# Altium footprint library mamsense_button.PcbLib: 197 footprints (part 1 of 13)
Each footprint in its own frame and in the unit in brackets; x right, y up, seen from the top. Pads: shape width x height; smd on the part's side, far side on the other; paste and mask are expansions set on the pad; w line width, h text height; cw(c..) or ccw(c..) is an arc to the next point about the centre after c.
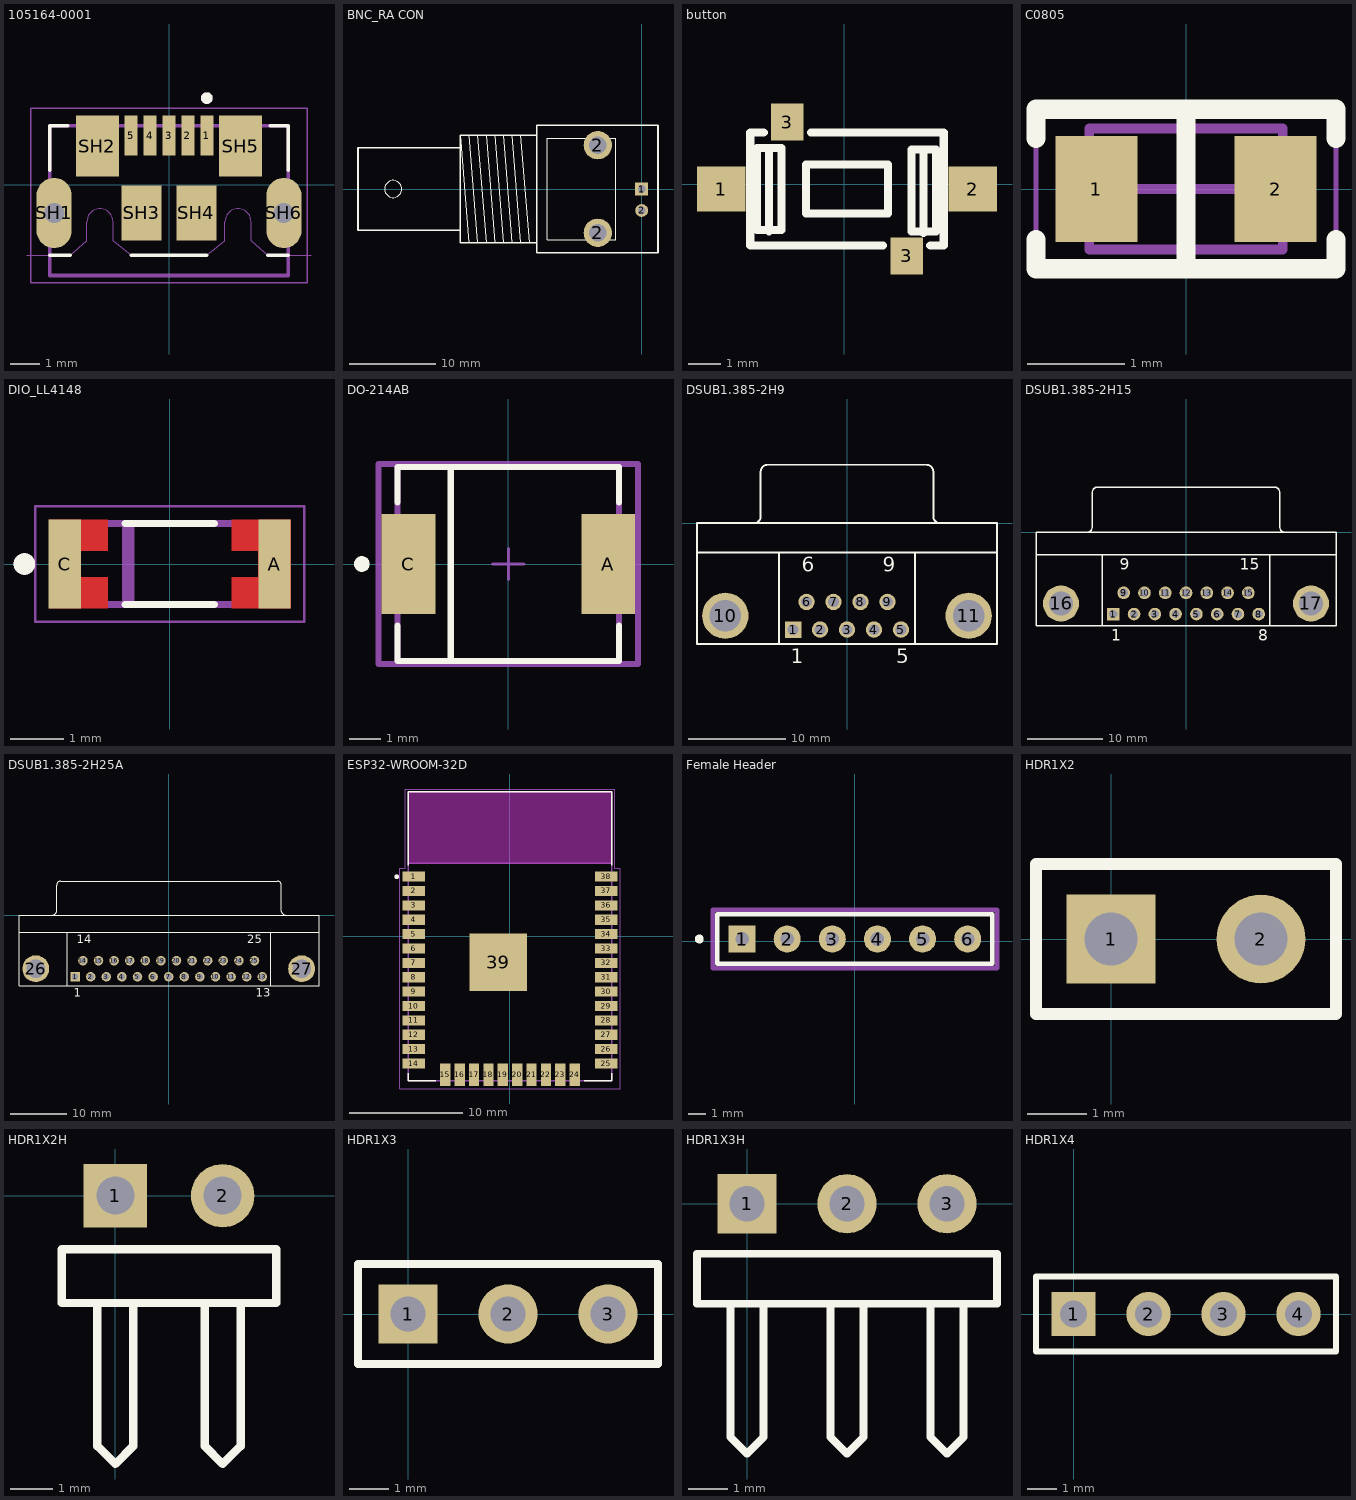
[diagram p0: the footprints below, top view; thin cyan lines are the x and y axes]

## 105164-0001 [mm] "Molex Micro B USB"
pads (11):
  rect 0.45x1.38 smd: 1(1.3,1.697) 2(0.65,1.697) 3(0,1.697) 4(-0.65,1.697) 5(-1.3,1.697)
  oval 1.208x2.416 hole 0.7 square: SH1(-3.95,-0.963) SH6(3.95,-0.963)
  rect 1.475x2.1 smd: SH2(-2.462,1.337) SH5(2.462,1.337)
  rect 1.375x1.9 smd: SH3(-0.937,-0.963) SH4(0.937,-0.963)
Top Overlay:
  circle w0.2: c1.3,2.987 r0.1
  lines w0.127: -4.1,-2.413 -3.4,-2.413 ; -4.1,0.507 -4.1,2.037 -3.48,2.037 ; -1.3,-2.413 1.3,-2.413 ; 3.4,-2.413 4.1,-2.413 ; 3.48,2.037 4.1,2.037 4.1,0.507
Mechanical 1:
  lines w0: -4.9,-2.413 -3.4,-2.413 -2.825,-1.913 -2.825,-1.263 cw(c-2.375,-1.263) -1.925,-1.263 -1.925,-1.913 -1.3,-2.413 0,-2.413 1.3,-2.413 1.925,-1.913 1.925,-1.263 cw(c2.375,-1.263) 2.825,-1.263 2.825,-1.913 3.4,-2.413 4.9,-2.413
Mechanical 13:
  circle w0.2: c1.3,2.987 r0.1
  lines w0.127: -4.1,-3.113 -4.1,2.037 4.1,2.037 4.1,-3.113 -4.1,-3.113
Mechanical 15:
  lines w0.05: -4.75,-3.363 -4.75,2.637 4.75,2.637 4.75,-3.363 -4.75,-3.363
3D body "105164-0001.stp": height 2.43, standoff -0.82, extent -4.1,-3.119 4.1,2.031

## BNC_RA CON [mm] "Connector; BNC Elbow"
pads (4):
  rect 1.5x1.5 hole 0.9: 1(0,0)
  round 3.3 hole 2: 2(-5.1,-5.1) 2(-5.1,5.1)
  round 1.5 hole 0.9: 2(0,-2.5)
Top Overlay:
  circle w0.025: c-28.9,0 r1
  lines w0.025: -20.1,-6.25 -21.1,6.25 ; -20.1,6.25 -19.1,-6.25 ; -19.1,6.25 -18.1,-6.25 ; -18.1,6.25 -17.1,-6.25 ; -17.1,6.25 -16.1,-6.25 ; -16.1,6.25 -15.1,-6.25 ; -15.1,6.25 -14.1,-6.25 ; -14.1,6.25 -13.1,-6.25 ; -21.1,-4.8 -33,-4.8 -33,4.8 -21.1,4.8 ; -21.1,-4.8 -21.1,4.8 ; -21.1,-4.8 -21.1,-6.25 -12.2,-6.25 ; -21.1,4.8 -21.1,6.25 ; -21.1,6.25 -12.2,6.25 ; -12.2,-6.25 -12.2,6.25 ; -12.2,-6.25 -12.2,-7.4 1.9,-7.4 1.9,7.4 -12.2,7.4 -12.2,6.25 ; -11,-5.9 -3,-5.9 -3,5.9 -11,5.9 -11,-5.9
  lines w0.2: -21.1,-4.8 -21.1,4.8 ; -21.1,-4.8 -33,-4.8 -33,4.8 -21.1,4.8 ; -21.1,-4.8 -21.1,-6.25 -12.2,-6.25 ; -21.1,4.8 -21.1,6.25 -12.2,6.25 ; -12.2,-6.25 -12.2,6.25 ; -12.2,-6.25 -12.2,-7.4 1.9,-7.4 1.9,7.4 -12.2,7.4 -12.2,6.25

## button [mm]
pads (4):
  rect 1.5x1.4 smd paste+0 mask+0.051: 1(-3.822,-0.144) 2(3.978,-0.144)
  rect 1x1.15 smd paste+0 mask+0.051: 3(-1.772,1.931) 3(1.928,-2.219)
Top Overlay:
  lines w0.254: -2.503,1.606 -2.922,1.606 -2.922,-1.894 1.197,-1.894 ; -2.343,-1.455 -2.343,1.085 ; -1.041,1.606 3.078,1.606 3.078,-1.894 2.659,-1.894 ; 2.45,-1.504 2.45,1.036 ; -2.716,-1.414 -2.716,1.126 -1.954,1.126 -1.954,-1.414 -2.716,-1.414 ; -1.192,-0.906 -1.192,0.618 1.348,0.618 1.348,-0.906 -1.192,-0.906 ; 2.077,-1.464 2.077,1.076 2.839,1.076 2.839,-1.464 2.077,-1.464

## C0805 [mm]
height 1
pads (2):
  rect 0.85x1.1 smd: 1(-0.925,0) 2(0.925,0)
Top Overlay:
  lines w0.2: -1.55,-0.525 -1.55,-0.825 1.55,-0.825 1.55,-0.525 ; -1.55,0.525 -1.55,0.825 1.55,0.825 1.55,0.525 ; 0,-0.825 0,0.8
Mechanical 13:
  lines w0.1: -1,-0.625 -1,0.625 1,0.625 1,-0.625 -1,-0.625
Mechanical 15:
  lines w0.05: -1.55,-0.825 1.55,-0.825 1.55,0.825 -1.55,0.825 -1.55,-0.825
  lines w0.1: -0.5,0 0.5,0 ; 0,-0.5 0,0.5
3D body "CAP FILM - 0805.step": height 1.2, standoff 0, extent -1,-0.616 1,0.616

## DIO_LL4148 [mm]
height 1.5
pads (2):
  rect 0.6x1.65 smd: A(1.95,0) C(-1.95,0)
Top Layer:
  region: 2.25,-0.825 1.15,-0.825 1.15,-0.25 1.65,-0.25 1.65,0.25 1.15,0.25 1.15,0.825 2.25,0.825
  region: -1.15,0.25 -1.65,0.25 -1.65,-0.25 -1.15,-0.25 -1.15,-0.825 -2.24,-0.825 -2.24,0.825 -1.15,0.825
Top Overlay:
  circle w0.2: c-2.7,0 r0.1
  lines w0.127: -0.83,-0.75 0.83,-0.75 ; -0.83,0.75 0.83,0.75
Top Paste:
  region: 1.65,0.25 1.15,0.25 1.15,0.825 1.65,0.825
  region: 1.65,0.25 1.15,0.25 1.15,0.825 1.65,0.825
  region: 1.65,-0.825 1.15,-0.825 1.15,-0.25 1.65,-0.25
  region: -1.15,-0.825 -1.65,-0.825 -1.65,-0.25 -1.15,-0.25
  region: -1.15,-0.825 -1.65,-0.825 -1.65,-0.25 -1.15,-0.25
  region: -1.15,0.25 -1.65,0.25 -1.65,0.825 -1.15,0.825
Top Solder:
  region: 1.55,0.15 1.05,0.15 1.05,0.925 1.55,0.925
  region: 1.55,-0.925 1.05,-0.925 1.05,-0.15 1.55,-0.15
  region: -1.05,-0.925 -1.55,-0.925 -1.55,-0.15 -1.05,-0.15
  region: -1.05,0.15 -1.55,0.15 -1.55,0.925 -1.05,0.925
Mechanical 13:
  circle w0.2: c-2.7,0 r0.1
  lines w0.127: -0.82,-0.75 -0.82,0.75 ; -0.72,-0.75 -0.72,0.75 ; -1.82,-0.75 1.82,-0.75 1.82,0.75 -1.82,0.75 -1.82,-0.75
Mechanical 15:
  lines w0.05: -2.5,-1.075 2.5,-1.075 2.5,1.075 -2.5,1.075 -2.5,-1.075
3D body "step_temp.STEP": height 1.5, standoff 0, extent -1.725,-0.75 1.725,0.75

## DO-214AB [mm]
pads (2):
  rect 1.72x3.2 smd paste+0 mask+0: A(3.205,0) C(-3.205,0)
Top Overlay:
  circle w0.25: c-4.7,0 r0.125
  lines w0.2: -3.555,-1.975 -3.555,-3.11 3.555,-3.11 3.555,-1.975 ; -3.555,1.975 -3.555,3.11 3.555,3.11 3.555,1.975 ; -1.85,-3 -1.85,3
Mechanical 5:
  lines w0.2: -4.165,-3.21 4.165,-3.21 4.165,3.21 -4.165,3.21 -4.165,-3.21
Mechanical 13:
  lines w0.2: -3.555,-3.11 3.555,-3.11 3.555,3.11 -3.555,3.11 -3.555,-3.11
Mechanical 15:
  lines w0.2: -4.165,-3.21 4.165,-3.21 4.165,3.21 -4.165,3.21 -4.165,-3.21
Mechanical 16:
  lines w0.1: -0.5,0 0.5,0 ; 0,-0.5 0,0.5
3D body "Diode_Vishay_SS34-E3-57T_eec.STEP": height 0.25, standoff 0, extent -4.165,-3.21 4.165,3.21

## DSUB1.385-2H9 [mm] "Connector; D Subminiature; 9 Position; Right Angle; Pitch 1.385 mm"
height 12.75
pads (11):
  rect 1.69x1.69 hole 1.09: 1(-5.54,-10.92)
  round 1.69 hole 1.09: 2(-2.77,-10.92) 3(0,-10.92) 4(2.77,-10.92) 5(5.54,-10.92) 6(-4.155,-8.08) 7(-1.385,-8.08) 8(1.385,-8.08) 9(4.155,-8.08)
  round 4.76 hole 3.26: 10(-12.495,-9.5) 11(12.495,-9.5)
Top Overlay:
  lines w0.2: -15.4,-3 15.4,-3 ; -9.56,0.005 ccw(c-9.56,0.7) -8.865,0.7 -8.865,5.3 ; -8.86,5.305 cw(c-8.165,5.305) -8.165,6 8.165,6 cw(c8.165,5.305) 8.86,5.305 ; -7,-12.4 -7,-3 ; 7,-12.4 7,-3 ; 8.865,5.3 8.865,0.7 ccw(c9.56,0.7) 9.56,0.005 ; -15.4,-12.4 -15.4,0 15.4,0 15.4,-12.4 -15.4,-12.4
  text "1" at -5.79,-14.375 h1.5
  text "5" at 5.04,-14.375 h1.5
  text "9" at 3.655,-4.975 h1.5
  text "6" at -4.655,-4.975 h1.5

## DSUB1.385-2H15 [mm] "Connector; D Subminiature; 15 Position; Right Angle; Pitch 1.385 mm"
height 12.75
pads (17):
  rect 1.69x1.69 hole 1.09: 1(-9.695,-10.92)
  round 1.69 hole 1.09: 2(-6.925,-10.92) 3(-4.155,-10.92) 4(-1.385,-10.92) 5(1.385,-10.92) 6(4.155,-10.92) 7(6.925,-10.92) 8(9.695,-10.92) 9(-8.31,-8.08) 10(-5.54,-8.08) 11(-2.77,-8.08) 12(0,-8.08) 13(2.77,-8.08) 14(5.54,-8.08) 15(8.31,-8.08)
  round 4.8 hole 3.18: 16(-16.66,-9.5) 17(16.66,-9.5)
Top Overlay:
  lines w0.2: -20,-3 20,-3 ; -13.195,0.005 ccw(c-13.195,0.7) -12.5,0.7 -12.5,5.3 ; -12.495,5.305 cw(c-11.8,5.305) -11.8,6 11.8,6 cw(c11.8,5.305) 12.495,5.305 ; -11.14,-12.5 -11.14,-3 ; 11.14,-12.5 11.14,-3 ; 12.5,5.3 12.5,0.7 ccw(c13.195,0.7) 13.195,0.005 ; -20,-12.5 -20,0 20,0 20,-12.5 -20,-12.5
  text "1" at -9.945,-14.475 h1.5
  text "8" at 9.652,-14.475 h1.5
  text "15" at 7.185,-4.975 h1.5
  text "9" at -8.81,-4.975 h1.5

## DSUB1.385-2H25A [mm] "Connector; D Subminiature; 25 Position; Right Angle; Pitch 1.385 mm"
height 12.93
pads (27):
  rect 1.69x1.69 hole 1.09: 1(-16.566,-10.92)
  round 1.69 hole 1.09: 2(-13.805,-10.92) 3(-11.044,-10.92) 4(-8.283,-10.92) 5(-5.522,-10.92) 6(-2.761,-10.92) 7(0,-10.92) 8(2.761,-10.92) 9(5.522,-10.92) 10(8.283,-10.92) 11(11.044,-10.92) 12(13.805,-10.92) 13(16.566,-10.92) 14(-15.185,-8.08) 15(-12.424,-8.08) 16(-9.663,-8.08) 17(-6.902,-8.08) 18(-4.141,-8.08) 19(-1.38,-8.08) 20(1.381,-8.08) 21(4.142,-8.08) 22(6.903,-8.08) 23(9.664,-8.08) 24(12.425,-8.08) 25(15.186,-8.08)
  round 4.76 hole 3.26: 26(-23.526,-9.5) 27(23.526,-9.5)
Top Overlay:
  lines w0.2: -26.496,-3 26.604,-3 ; -20.541,0.005 ccw(c-20.541,0.7) -19.846,0.7 -19.846,5.3 ; -19.841,5.305 cw(c-19.146,5.305) -19.146,6 19.254,6 cw(c19.254,5.305) 19.949,5.305 ; -17.946,-12.5 -17.946,-3 ; 18.054,-12.5 18.054,-3 ; 19.954,5.3 19.954,0.7 ccw(c20.649,0.7) 20.649,0.005 ; -26.496,-12.5 -26.496,0 26.604,0 26.604,-12.5 -26.496,-12.5
  text "25" at 13.936,-4.975 h1.5
  text "14" at -16.31,-4.975 h1.5
  text "13" at 15.441,-14.475 h1.5
  text "1" at -16.816,-14.475 h1.5

## ESP32-WROOM-32D [mm]
pads (39):
  rect 2x0.9 smd mask+0.102: 1(-8.5,5.26) 2(-8.5,3.99) 3(-8.5,2.72) 4(-8.5,1.45) 5(-8.5,0.18) 6(-8.5,-1.09) 7(-8.5,-2.36) 8(-8.5,-3.63) 9(-8.5,-4.9) 10(-8.5,-6.17) 11(-8.5,-7.44) 12(-8.5,-8.71) 13(-8.5,-9.98) 14(-8.5,-11.25) 25(8.5,-11.25) 26(8.5,-9.98) 27(8.5,-8.71) 28(8.5,-7.44) 29(8.5,-6.17) 30(8.5,-4.9) 31(8.5,-3.63) 32(8.5,-2.36) 33(8.5,-1.09) 34(8.5,0.18) 35(8.5,1.45) 36(8.5,2.72) 37(8.5,3.99) 38(8.5,5.26)
  rect 0.9x2 smd mask+0.102: 15(-5.715,-12.25) 16(-4.445,-12.25) 17(-3.175,-12.25) 18(-1.905,-12.25) 19(-0.635,-12.25) 20(0.635,-12.25) 21(1.905,-12.25) 22(3.175,-12.25) 23(4.445,-12.25) 24(5.715,-12.25)
  rect 5.08x5.08 smd mask+0.102: 39(-1.016,-2.286)
Top Overlay:
  circle w0.2: c-10,5.25 r0.1
  lines w0.127: -9,-12.1 -9,-12.75 -6.55,-12.75 ; -9,6.25 -9,12.75 9,12.75 9,6.25 ; 6.55,-12.75 9,-12.75 9,-12.1
Keep-Out Layer:
  region: 9,6.45 -9,6.45 -9,12.75 9,12.75
  region: 9,6.45 -9,6.45 -9,12.75 9,12.75
Mechanical 13:
  circle w0.2: c-10,5.25 r0.1
  lines w0.127: -9,6.45 9,6.45 ; -9,6.45 -9,12.75 9,12.75 9,6.45 ; -9,6.45 -9,-12.75 9,-12.75 9,6.45
  text "ANTENNA" at -6,9 h1.78
Mechanical 15:
  lines w0.05: -9.75,-13.5 -9.75,6 -9.25,6 -9.25,13 9.25,13 9.25,6 9.75,6 9.75,-13.5 -9.75,-13.5
3D body "ESP32-WROOM-32D--3DModel-STEP-56544.STEP": height 3.25, standoff 0, extent -9,-12.75 9,12.75

## Female Header [mil]
pads (6):
  rect 60x60 hole 30: 1(-250,5)
  round 60 hole 30: 2(-150,5) 3(-50,5) 4(50,5) 5(150,5) 6(250,5)
Top Overlay:
  circle w9.84: c-345,5 r4.92
  lines w10: -305,-50 -305,60 305,60 305,-50 -305,-50
Mechanical 15:
  lines w10: -315,-60 -315,70 315,70 315,-60 -315,-60
3D body "Female Pin Header 01x06 Pitch 2.54mm Height 8.5mm.stp": height 334.65, standoff -125.98, extent -300,-45 300,55

## HDR1X2 [mm] "Connector; Header; 2 Position"
pads (2):
  rect 1.5x1.5 hole 0.9: 1(0,0)
  round 1.5 hole 0.9: 2(2.54,0)
Top Overlay:
  lines w0.2: -1.27,-1.27 -1.27,1.27 3.81,1.27 3.81,-1.27 -1.27,-1.27

## HDR1X2H [mm] "Connector; Header; 2 Position; Right Angle"
pads (2):
  rect 1.5x1.5 hole 0.9: 1(0,0)
  round 1.5 hole 0.9: 2(2.54,0)
Top Overlay:
  lines w0.2: -0.423,-2.54 -0.423,-5.927 0,-6.35 0.423,-5.927 0.423,-2.54 ; 2.117,-2.54 2.117,-5.927 2.54,-6.35 2.963,-5.927 2.963,-2.54 ; -1.27,-2.54 3.81,-2.54 3.81,-1.27 -1.27,-1.27 -1.27,-2.54

## HDR1X3 [mm] "Connector; Header; 3 Position"
pads (3):
  rect 1.5x1.5 hole 0.9: 1(0,0)
  round 1.5 hole 0.9: 2(2.54,0) 3(5.08,0)
Top Overlay:
  lines w0.2: -1.27,-1.27 -1.27,1.27 6.35,1.27 6.35,-1.27 -1.27,-1.27

## HDR1X3H [mm] "Connector; Header; 3 Position; Right Angle"
pads (3):
  rect 1.5x1.5 hole 0.9: 1(0,0)
  round 1.5 hole 0.9: 2(2.54,0) 3(5.08,0)
Top Overlay:
  lines w0.2: -0.423,-2.54 -0.423,-5.927 0,-6.35 0.423,-5.927 0.423,-2.54 ; 2.117,-2.54 2.117,-5.927 2.54,-6.35 2.963,-5.927 2.963,-2.54 ; 4.657,-2.54 4.657,-5.927 5.08,-6.35 5.503,-5.927 5.503,-2.54 ; -1.27,-2.54 -1.27,-1.27 6.35,-1.27 6.35,-2.54 -1.27,-2.54

## HDR1X4 [mm] "Connector; Header; 4 Position"
pads (4):
  rect 1.5x1.5 hole 0.9: 1(0,0)
  round 1.5 hole 0.9: 2(2.54,0) 3(5.08,0) 4(7.62,0)
Top Overlay:
  lines w0.2: -1.27,-1.27 8.89,-1.27 8.89,1.27 -1.27,1.27 -1.27,-1.27